# EAGLE library part CD4050 (library sj_ic)
CD4050 Hex Non-Inverting Buffer
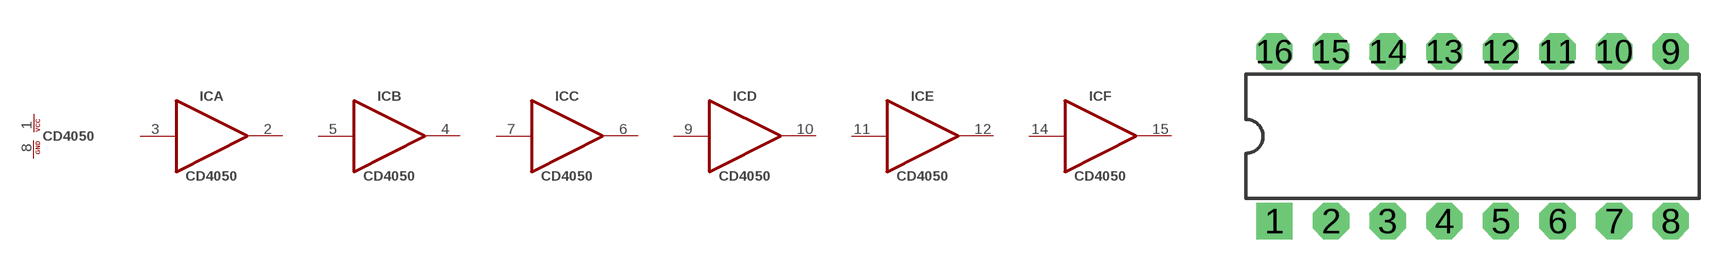
[diagram p3: symbol with the pads of DIP16; footprint DIP16]

Designator prefix IC; gates A=GATE B=GATE C=GATE D=GATE E=GATE F=GATE P=POWER

## CD4050  [DIP16]
1  P:VCC  pwr
2  A:O
3  A:I
4  B:O
5  B:I
6  C:O
7  C:I
8  P:GND  pwr
9  D:I
10  D:O
11  E:I
12  E:O
14  F:I
15  F:O

## Footprint DIP16 (pad centres in mm)
16-pin Dual In Line Package
drill 0.813 pad 1.626 square: 1 -8.89,-3.81
drill 0.813 pad 1.626 octagon: 2 -6.35,-3.81; 3 -3.81,-3.81; 4 -1.27,-3.81; 5 1.27,-3.81; 6 3.81,-3.81; 7 6.35,-3.81; 8 8.89,-3.81; 9 8.89,3.81; 10 6.35,3.81; 11 3.81,3.81; 12 1.27,3.81; 13 -1.27,3.81; 14 -3.81,3.81; 15 -6.35,3.81; 16 -8.89,3.81